# Altium footprint library Miscellaneous.PcbLib: 11 footprints
Each footprint in its own frame and in the unit in brackets; x right, y up, seen from the top. Pads: shape width x height; smd on the part's side, far side on the other; paste and mask are expansions set on the pad; w line width, h text height; cw(c..) or ccw(c..) is an arc to the next point about the centre after c.
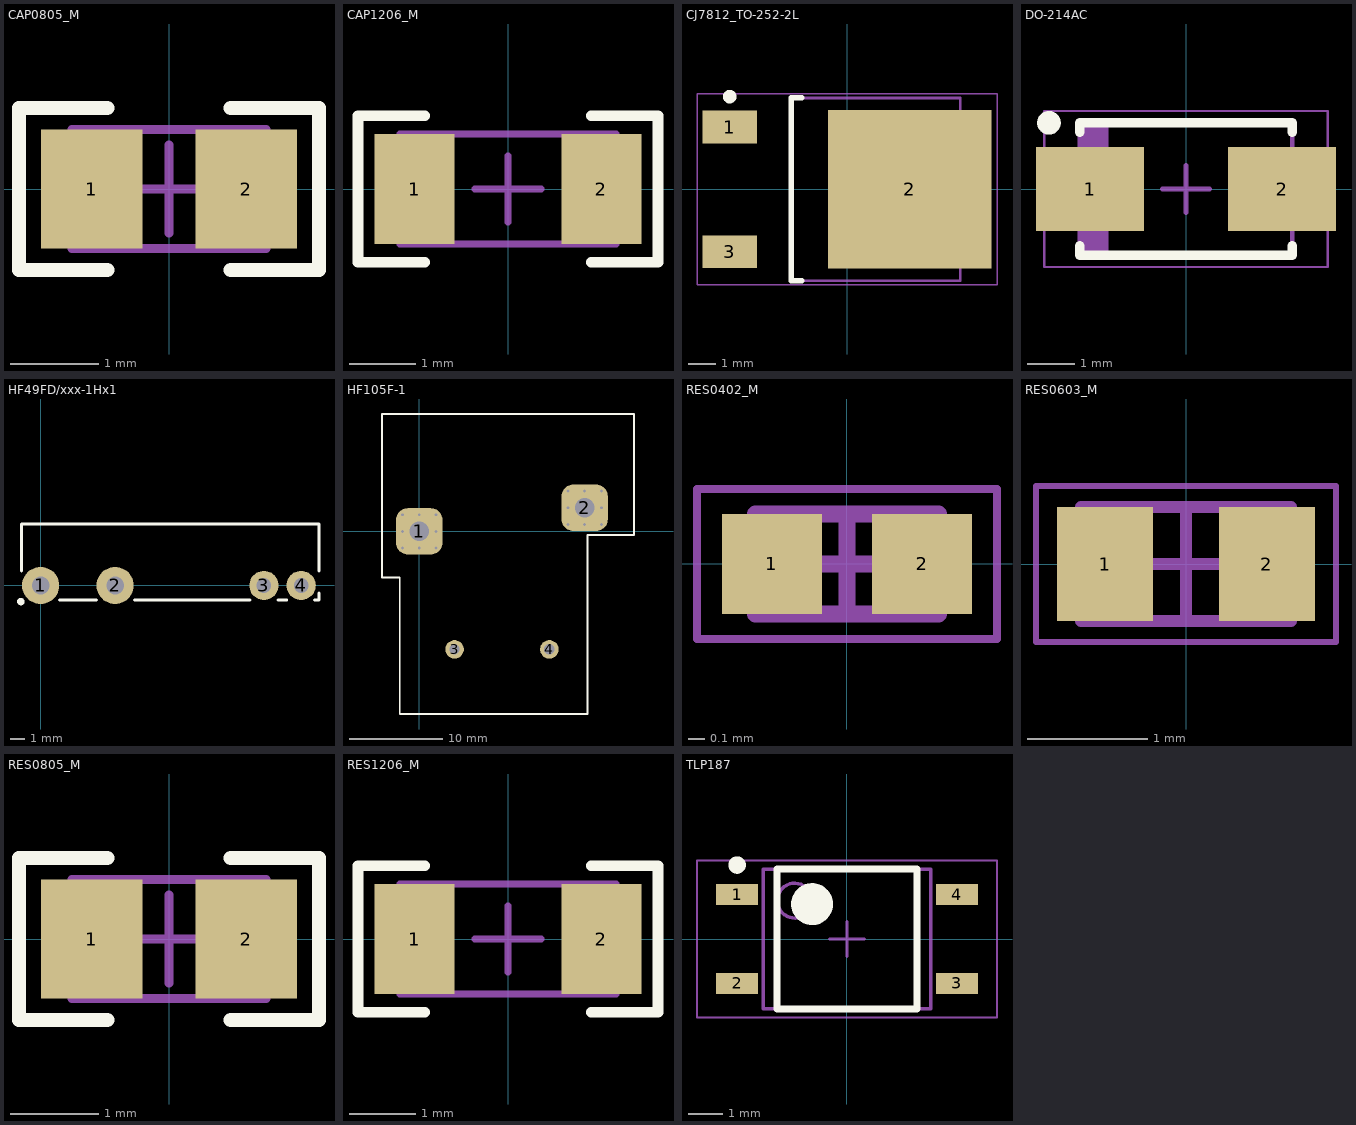
[diagram p0: the footprints below, top view; thin cyan lines are the x and y axes]

## CAP0805_M [mm] "Chip Capacitor, 2-Leads, Body 2.00x1.25mm, IPC Medium Density"
height 1.25
pads (2):
  rect 1.15x1.35 smd: 1(-0.875,0) 2(0.875,0)
Top Overlay:
  lines w0.16: -0.7,-0.92 -1.7,-0.92 -1.7,0.92 -0.7,0.92 ; 0.7,-0.92 1.7,-0.92 1.7,0.92 0.7,0.92
Mechanical 13:
  lines w0.1: -1.1,-0.675 -1.1,0.675 1.1,0.675 1.1,-0.675 -1.1,-0.675
Mechanical 15:
  lines w0.1: -0.5,0 0.5,0 ; 0,-0.5 0,0.5
3D body: height 0.7, standoff 0, extent -0.7,-0.675 0.7,0.675
3D body: height 0.7, standoff 0, extent -1.1,-0.675 -0.7,0.675
3D body: height 0.7, standoff 0, extent 0.7,-0.675 1.1,0.675

## CAP1206_M [mm] "Chip Capacitor, 2-Leads, Body 3.13x1.55mm, IPC Medium Density"
height 1.6
pads (2):
  rect 1.2x1.65 smd: 1(-1.4,0) 2(1.4,0)
Top Overlay:
  lines w0.16: -1.25,-1.1 -2.25,-1.1 -2.25,1.1 -1.25,1.1 ; 1.25,-1.1 2.25,-1.1 2.25,1.1 1.25,1.1
Mechanical 13:
  lines w0.1: -1.625,-0.825 1.625,-0.825 1.625,0.825 -1.625,0.825 -1.625,-0.825
Mechanical 15:
  lines w0.1: -0.5,0 0.5,0 ; 0,-0.5 0,0.5
3D body: height 0.7, standoff 0, extent 1.125,-0.825 1.625,0.825
3D body: height 0.7, standoff 0, extent -1.625,-0.825 -1.125,0.825
3D body: height 0.7, standoff 0, extent -1.125,-0.825 1.125,0.825

## CJ7812_TO-252-2L [mm] "D-PAK, 3-Pads, Body 6.20x6.71mm (max), IPC Medium Density"
height 2.38
pads (3):
  rect 2x1.2 smd: 1(-4.3,2.285) 3(-4.3,-2.285)
  rect 6x5.8 smd: 2(2.3,0)
Top Overlay:
  circle w0.25: c-4.3,3.4 r0.125
  lines w0.2: -1.65,-3.35 -2.05,-3.35 -2.05,3.35 -1.65,3.35
Mechanical 13:
  lines w0.1: -2.05,-3.35 4.15,-3.35 4.15,3.35 -2.05,3.35 -2.05,-3.35
Mechanical 15:
  lines w0.05: -5.5,-3.5 5.5,-3.5 5.5,3.5 -5.5,3.5 -5.5,-3.5
  lines w0.1: -0.3,0 0.7,0 ; 0.2,-0.5 0.2,0.5
3D body: height 2.38, standoff 0, extent -2.05,-3.35 4.15,3.35

## DO-214AC [mil] "Molded Diode, 2-Leads, Body 4.25x2.67mm, IPC Medium Density"
height 95.28
pads (2):
  rect 90x70 smd: 1(-80,0) 2(80,0)
Top Overlay:
  circle w9.84: c-114.17,55.12 r4.92
  lines w7.87: -88.58,-47.24 -88.58,-55.12 88.58,-55.12 88.58,-47.24 ; -88.58,47.24 -88.58,55.12 88.58,55.12 88.58,47.24
Mechanical 13:
  rectangle: -88.58,-55.12 -64.75,55.12
  lines w3.94: -88.58,-55.12 -88.58,55.12 88.58,55.12 88.58,-55.12 -88.58,-55.12
Mechanical 15:
  lines w1.97: -118.11,-64.96 -118.11,64.96 118.11,64.96 118.11,-64.96 -118.11,-64.96
  lines w3.94: -19.69,0 19.68,0 ; 0,-19.68 0,19.69
3D body: height 95.28, standoff 0, extent -88.58,-55.12 88.58,55.12

## HF49FD/xxx-1Hx1 [mm] "Relay HF49FD/xxx-1Hx1"
height 12.8
pads (4):
  round 2.54 hole 1.2: 1(0,0) 2(5.08,0)
  round 2 hole 1: 3(15.24,0) 4(17.78,0)
Top Overlay:
  circle w0.254: c-1.35,-1.1 r0.127
  lines w0.2: -1.3,1 -1.3,4.2 19,4.2 19,1 ; 1.3,-1 3.8,-1 ; 6.4,-1 14.3,-1 ; 16.2,-1 16.8,-1 ; 18.7,-1 19,-1 19,-0.5
3D body: height 12.8, standoff 0, extent -1.3,-1 19,4.2

## HF105F-1 [mm] "Relay HF105F-1"
height 20.2
pads (4):
  rrect50% 5x5 hole 2.1: 1(0,0) 2(17.8,2.54)
  round 2 hole 1.1: 3(3.8,-12.7) 4(14,-12.7)
via 19.6,0.74 diameter 0.61 hole 0.305
via 16,0.74 diameter 0.61 hole 0.305
via 16,4.34 diameter 0.61 hole 0.305
via 19.6,4.34 diameter 0.61 hole 0.305
via 16,2.54 diameter 0.61 hole 0.305
via 19.6,2.54 diameter 0.61 hole 0.305
via 17.8,0.74 diameter 0.61 hole 0.305
via 17.8,4.34 diameter 0.61 hole 0.305
via 0,1.8 diameter 0.61 hole 0.305
via 0,-1.8 diameter 0.61 hole 0.305
via 1.8,0 diameter 0.61 hole 0.305
via -1.8,0 diameter 0.61 hole 0.305
via 1.8,1.8 diameter 0.61 hole 0.305
via -1.8,1.8 diameter 0.61 hole 0.305
via -1.8,-1.8 diameter 0.61 hole 0.305
via 1.8,-1.8 diameter 0.61 hole 0.305
Top Overlay:
  lines w0.2: -4,-4.96 -2.1,-4.96 -2.1,-19.66 18.1,-19.66 18.1,-0.4 23.1,-0.4 23.1,12.64 -4,12.64 -4,-4.96
3D body: height 20.2, standoff 0, extent -3.999,-19.659 23.099,12.639

## RES0402_M [mm] "Chip Resistor, 2-Leads, Body 1.00x0.50mm, IPC Medium Density"
height 0.4
pads (2):
  rect 0.6x0.6 smd: 1(-0.45,0) 2(0.45,0)
Mechanical 13:
  lines w0.1: -0.55,-0.3 -0.55,0.3 0.55,0.3 0.55,-0.3 -0.55,-0.3
Mechanical 15:
  lines w0.05: -0.9,-0.45 -0.9,0.45 0.9,0.45 0.9,-0.45 -0.9,-0.45
  lines w0.1: -0.3,0 0.3,0 ; 0,-0.3 0,0.3
3D body: height 0.4, standoff 0, extent -0.35,-0.3 0.35,0.3
3D body: height 0.4, standoff 0, extent -0.55,-0.3 -0.35,0.3
3D body: height 0.4, standoff 0, extent 0.35,-0.3 0.55,0.3

## RES0603_M [mm] "Chip Resistor, 2-Leads, Body 1.60x0.85mm, IPC Medium Density"
height 0.55
pads (2):
  rect 0.8x0.95 smd: 1(-0.675,0) 2(0.675,0)
Mechanical 13:
  lines w0.1: -0.875,-0.475 0.875,-0.475 0.875,0.475 -0.875,0.475 -0.875,-0.475
Mechanical 15:
  lines w0.05: -1.25,-0.65 1.25,-0.65 1.25,0.65 -1.25,0.65 -1.25,-0.65
  lines w0.1: -0.475,0 0.475,0 ; 0,-0.475 0,0.475
3D body: height 0.55, standoff 0, extent 0.575,-0.475 0.875,0.475
3D body: height 0.55, standoff 0, extent -0.875,-0.475 -0.575,0.475
3D body: height 0.55, standoff 0, extent -0.575,-0.475 0.575,0.475

## RES0805_M [mm] "Chip Resistor, 2-Leads, Body 2.00x1.25mm, IPC Medium Density"
height 0.7
pads (2):
  rect 1.15x1.35 smd: 1(-0.875,0) 2(0.875,0)
Top Overlay:
  lines w0.16: -0.7,-0.92 -1.7,-0.92 -1.7,0.92 -0.7,0.92 ; 0.7,-0.92 1.7,-0.92 1.7,0.92 0.7,0.92
Mechanical 13:
  lines w0.1: -1.1,-0.675 1.1,-0.675 1.1,0.675 -1.1,0.675 -1.1,-0.675
Mechanical 15:
  lines w0.1: -0.5,0 0.5,0 ; 0,-0.5 0,0.5
3D body: height 0.7, standoff 0, extent 0.7,-0.675 1.1,0.675
3D body: height 0.7, standoff 0, extent -1.1,-0.675 -0.7,0.675
3D body: height 0.7, standoff 0, extent -0.7,-0.675 0.7,0.675

## RES1206_M [mm] "Chip Resistor, 2-Leads, Body 3.13x1.55mm, IPC Medium Density"
height 0.7
pads (2):
  rect 1.2x1.65 smd: 1(-1.4,0) 2(1.4,0)
Top Overlay:
  lines w0.16: -1.25,-1.1 -2.25,-1.1 -2.25,1.1 -1.25,1.1 ; 1.25,-1.1 2.25,-1.1 2.25,1.1 1.25,1.1
Mechanical 13:
  lines w0.1: -1.625,-0.825 1.625,-0.825 1.625,0.825 -1.625,0.825 -1.625,-0.825
Mechanical 15:
  lines w0.1: -0.5,0 0.5,0 ; 0,-0.5 0,0.5
3D body: height 0.7, standoff 0, extent 1.125,-0.825 1.625,0.825
3D body: height 0.7, standoff 0, extent -1.625,-0.825 -1.125,0.825
3D body: height 0.7, standoff 0, extent -1.125,-0.825 1.125,0.825

## TLP187 [mm] "SOP, 4-Leads, Body 3.75x4.60mm, Pitch 2.54mm, IPC Medium Density"
height 2.3
pads (4):
  rect 1.2x0.6 smd: 1(-3.15,1.27) 2(-3.15,-1.27) 3(3.15,-1.27) 4(3.15,1.27)
Top Overlay:
  circle w0.6: c-1,1 r0.3
  circle w0.25: c-3.15,2.12 r0.125
  lines w0.2: -2,-2 2,-2 2,2 -2,2 -2,-2
Mechanical 13:
  circle w0.1: c-1.5,1.1 r0.5
  lines w0.1: -2.4,-2 2.4,-2 2.4,2 -2.4,2 -2.4,-2
Mechanical 15:
  lines w0.05: -4.3,-2.25 4.3,-2.25 4.3,2.25 -4.3,2.25 -4.3,-2.25
  lines w0.1: -0.5,0 0.5,0 ; 0,-0.5 0,0.5
3D body: height 2.3, standoff 0.1, extent -2.4,-2 2.4,2